# EAGLE library part 128X64-GLCD-B (library Eagle3D-Displays)
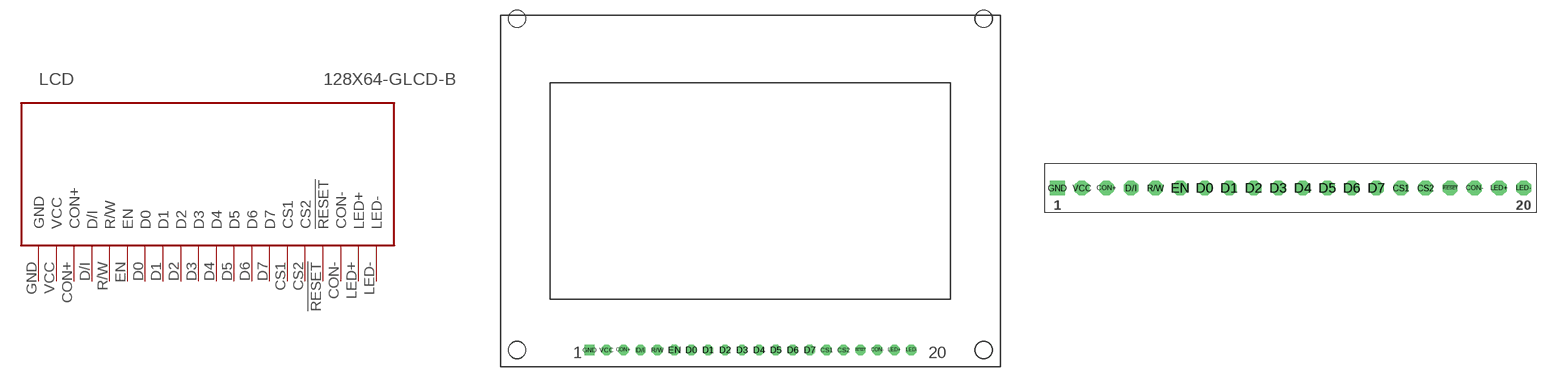
[diagram p3: symbol with the pads of 128X64-GLCD-B; footprints 128X64-GLCD-B, 128X64-GLCD-B-PINS]

Designator prefix LCD

## 128X64-GLCD-B  [128X64-GLCD-B]
!RESET  !RESET
CON+  CON+
CON-  CON-
CS1  CS1
CS2  CS2
D0  D0
D1  D1
D2  D2
D3  D3
D4  D4
D5  D5
D6  D6
D7  D7
D/I  D/I
EN  EN
GND  GND  pwr
LED+  LED+
LED-  LED-
R/W  R/W
VCC  VCC  pwr

## 128X64-GLCD-B-PINS  [128X64-GLCD-B-PINS]
Pads as for 128X64-GLCD-B

## Footprint 128X64-GLCD-B (pad centres in mm)
drill 1.016 octagon: !RESET 15.24,-25.4; CON+ -20.32,-25.4; CON- 17.78,-25.4; CS1 10.16,-25.4; CS2 12.7,-25.4; D0 -10.16,-25.4; D1 -7.62,-25.4; D2 -5.08,-25.4; D3 -2.54,-25.4; D4 0,-25.4; D5 2.54,-25.4; D6 5.08,-25.4; D7 7.62,-25.4; D/I -17.78,-25.4; EN -12.7,-25.4; LED+ 20.32,-25.4; LED- 22.86,-25.4; R/W -15.24,-25.4; VCC -22.86,-25.4
drill 1.016 square: GND -25.4,-25.4
hole 2.5 at -36.3,-25.4
hole 2.5 at -36.3,24.3
hole 2.5 at 33.7,24.3
hole 2.5 at 33.7,-25.4

## Footprint 128X64-GLCD-B-PINS (pad centres in mm)
drill 1.016 octagon: !RESET 16.51,0; CON+ -19.05,0; CON- 19.05,0; CS1 11.43,0; CS2 13.97,0; D0 -8.89,0; D1 -6.35,0; D2 -3.81,0; D3 -1.27,0; D4 1.27,0; D5 3.81,0; D6 6.35,0; D7 8.89,0; D/I -16.51,0; EN -11.43,0; LED+ 21.59,0; LED- 24.13,0; R/W -13.97,0; VCC -21.59,0
drill 1.016 square: GND -24.13,0